# EAGLE library part MT25QL256ABA1EW9-0SIT (library MT25QL256ABA1EW9-0SIT)
NOR Flash Serial-SPI 3.3V 256Mbit 256M x 1bit 8-Pin WPDFN
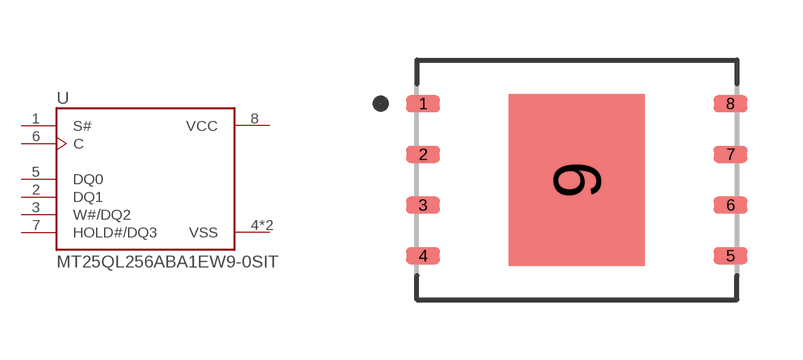
[diagram p0: symbol with the pads of SON127P600X800X80-9N; footprint SON127P600X800X80-9N]

Designator prefix U

## MT25QL256ABA1EW9-0SIT (Availability: Unavailable; Description: NOR Flash Serial-SPI 3.3V 256Mbit 256M x 1bit 8-Pin WPDFN; MF: Micron Technology; MP: MT25QL256ABA1EW9-0SIT; Package: WDFN-8 Micron Technology; Price: None)  [SON127P600X800X80-9N]
1  S#  in
2  DQ1
3  W#/DQ2
4  VSS  pwr
5  DQ0
6  C  in
7  HOLD#/DQ3
8  VCC  pwr
9  VSS  pwr

## Footprint SON127P600X800X80-9N (pad centres in mm)
smd 0.84 x 0.42: 1 -3.845,1.905; 2 -3.845,0.635; 3 -3.845,-0.635; 4 -3.845,-1.905; 5 3.845,-1.905; 6 3.845,-0.635; 7 3.845,0.635; 8 3.845,1.905
smd 3.4 x 4.3: 9 0,0